# EAGLE library part ADAFRUIT_GPS (library Adrafruit_Ultimate_GPS)
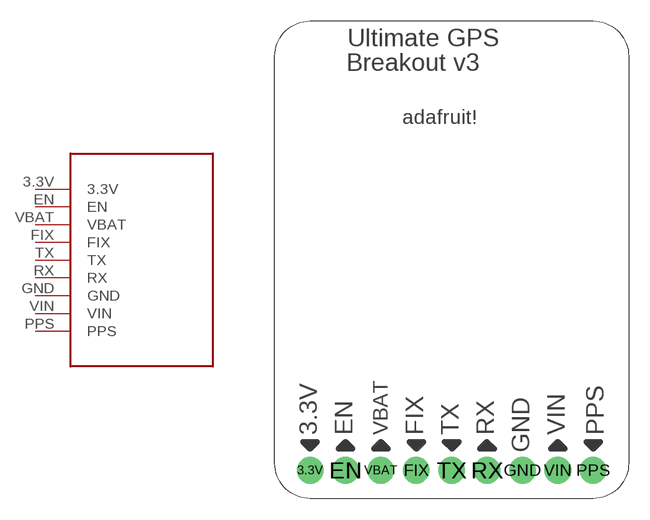
[diagram p0: symbol with the pads of ADAFRUIT_GPS; footprint ADAFRUIT_GPS]

Designator prefix -

## ADAFRUIT_GPS  [ADAFRUIT_GPS]
3.3V  3.3V
EN  EN
FIX  FIX
GND  GND
PPS  PPS
RX  RX
TX  TX
VBAT  VBAT
VIN  VIN

## Footprint ADAFRUIT_GPS (pad centres in mm)
drill 1.27: 3.3V 2.54,2.032; EN 5.08,2.032; FIX 10.16,2.032; GND 17.78,2.032; PPS 22.86,2.032; RX 15.24,2.032; TX 12.7,2.032; VBAT 7.62,2.032; VIN 20.32,2.032